# Altium schematic symbol library SS8050.SchLib: 1 symbol
Pins are listed as number, name and electrical type; pins without a type are passive.

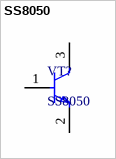
[diagram p0: symbol SS8050]

## SS8050
designator VT?
footprint FP-SS8050-G-IPC_A
footprint FP-SS8050-G-IPC_B
footprint FP-SS8050-G-IPC_C
footprint FP-SS8050-G-MFG
pins: 1 B, 2 E, 3 C